# Altium footprint library 691 244 800 0xx.PcbLib: 2 footprints
Each footprint in its own frame and in the unit in brackets; x right, y up, seen from the top. Pads: shape width x height; smd on the part's side, far side on the other; paste and mask are expansions set on the pad; w line width, h text height; cw(c..) or ccw(c..) is an arc to the next point about the centre after c.
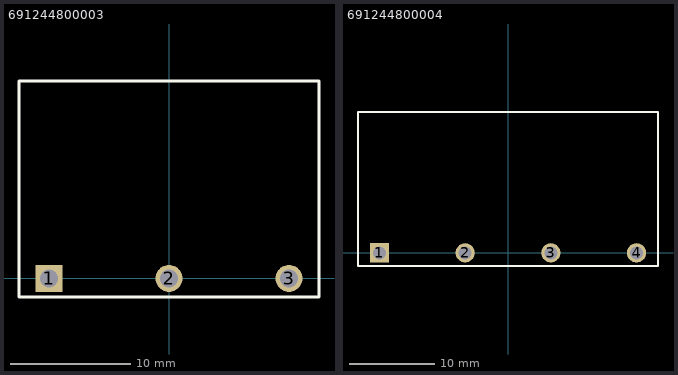
[diagram p0: the footprints below, top view; thin cyan lines are the x and y axes]

## 691244800003 [mm] "Serie 2448 - 10.00 mm _ 3 pins"
height 11.2
pads (3):
  rect 2.25x2.25 hole 1.5: 1(-10,0)
  round 2.25 hole 1.5: 2(0,0) 3(10,0)
Top Overlay:
  lines w0.254: -12.5,-1.55 12.5,-1.55 12.5,16.45 -12.5,16.45 -12.5,-1.55
3D body: height 11.3, standoff -3.9, extent -12.5,-1.5 12.5,16.5

## 691244800004 [mm] "Serie 2448 - 10.00 mm _ 4 pins"
height 11.2
pads (4):
  rect 2.25x2.25 hole 1.5: 1(-15,0)
  round 2.25 hole 1.5: 2(-5,0) 3(5,0) 4(15,0)
Top Overlay:
  lines w0.254: -17.5,-1.55 -17.5,16.45 17.5,16.45 17.5,-1.55 -17.5,-1.55
3D body: height 11.3, standoff -3.9, extent -17.5,-1.6 17.5,16.4